# EAGLE library part LT3463EDD (library LT3463EDD)
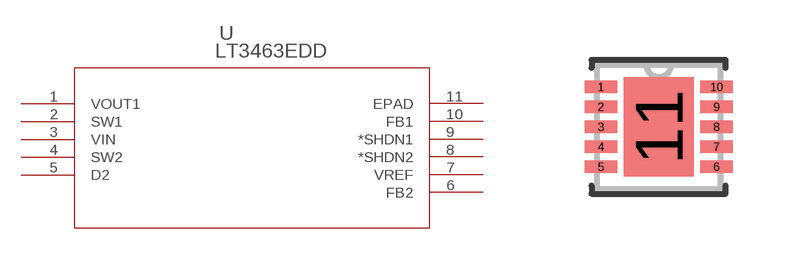
[diagram p0: symbol with the pads of DFN-10_DD; footprint DFN-10_DD]

Designator prefix U

## LT3463EDD (Availability: Unavailable; Description: LT3463 - Dual Micropower DC/DC Converters with Schottky Diodes; MF: Linear Technology; MP: LT3463EDD; Package: DFN-10 Linear Technology; Price: None)  [DFN-10_DD]
1  VOUT1  out
2  SW1  pas
3  VIN  in
4  SW2  pas
5  D2  pas
6  FB2  pas
7  VREF  pwr
8  *SHDN2  pas
9  *SHDN1  pas
10  FB1  out
11  EPAD  pas

## Footprint DFN-10_DD (pad centres in mm)
smd 0.813 x 0.305: 1 -1.448,1; 2 -1.448,0.5; 3 -1.448,0; 4 -1.448,-0.5; 5 -1.448,-1; 6 1.448,-1; 7 1.448,-0.5; 8 1.448,0; 9 1.448,0.5; 10 1.448,1
smd 1.753 x 2.489: 11 0,0